# EAGLE library part BM83 (library BW-Active)
Bluetooth audio module
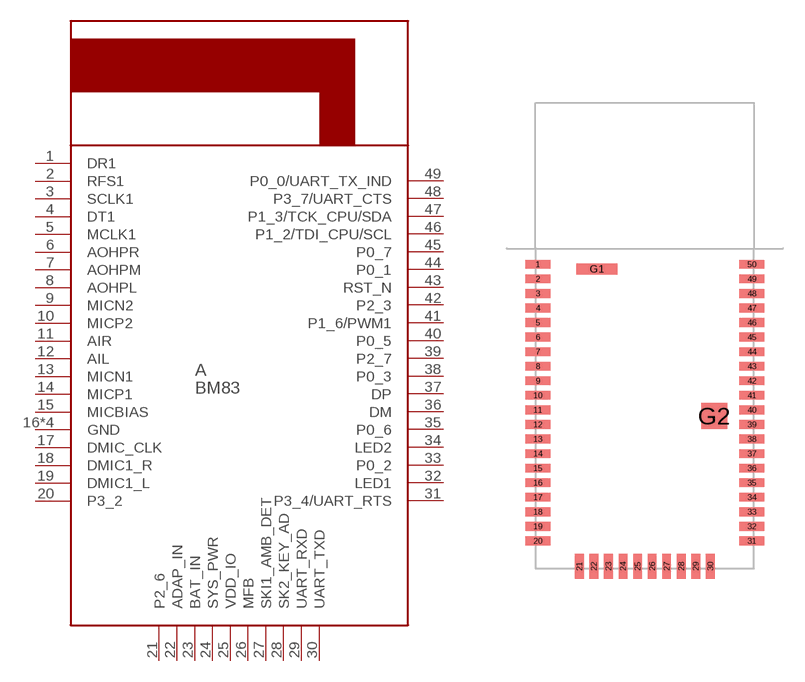
[diagram p30: symbol with the pads of BM83; footprint BM83]

Designator prefix A

## BM83  [BM83]
1  DR1
2  RFS1
3  SCLK1
4  DT1
5  MCLK1
6  AOHPR
7  AOHPM
8  AOHPL
9  MICN2
10  MICP2
11  AIR
12  AIL
13  MICN1
14  MICP1
15  MICBIAS
16  GND
17  DMIC_CLK
18  DMIC1_R
19  DMIC1_L
20  P3_2
21  P2_6
22  ADAP_IN
23  BAT_IN
24  SYS_PWR
25  VDD_IO
26  MFB
27  SKI1_AMB_DET
28  SK2_KEY_AD
29  UART_RXD
30  UART_TXD
31  P3_4/UART_RTS
32  LED1
33  P0_2
34  LED2
35  P0_6
36  DM
37  DP
38  P0_3
39  P2_7
40  P0_5
41  P1_6/PWM1
42  P2_3
43  RST_N
44  P0_1
45  P0_7
46  P1_2/TDI_CPU/SCL
47  P1_3/TCK_CPU/SDA
48  P3_7/UART_CTS
49  P0_0/UART_TX_IND
50  GND
G1  GND
G2  GND

## Footprint BM83 (pad centres in mm)
smd 1.7 x 0.6: 1 0.15,-1.1; 2 0.15,-2.1; 3 0.15,-3.1; 4 0.15,-4.1; 5 0.15,-5.1; 6 0.15,-6.1; 7 0.15,-7.1; 8 0.15,-8.1; 9 0.15,-9.1; 10 0.15,-10.1; 11 0.15,-11.1; 12 0.15,-12.1; 13 0.15,-13.1; 14 0.15,-14.1; 15 0.15,-15.1; 16 0.15,-16.1; 17 0.15,-17.1; 18 0.15,-18.1; 19 0.15,-19.1; 20 0.15,-20.1; 31 14.85,-20.1; 32 14.85,-19.1; 33 14.85,-18.1; 34 14.85,-17.1; 35 14.85,-16.1; 36 14.85,-15.1; 37 14.85,-14.1; 38 14.85,-13.1; 39 14.85,-12.1; 40 14.85,-11.1; 41 14.85,-10.1; 42 14.85,-9.1; 43 14.85,-8.1; 44 14.85,-7.1; 45 14.85,-6.1; 46 14.85,-5.1; 47 14.85,-4.1; 48 14.85,-3.1; 49 14.85,-2.1; 50 14.85,-1.1
smd 0.6 x 1.7: 21 3,-21.85; 22 4,-21.85; 23 5,-21.85; 24 6,-21.85; 25 7,-21.85; 26 8,-21.85; 27 9,-21.85; 28 10,-21.85; 29 11,-21.85; 30 12,-21.85
smd 2.79 x 0.76: G1 4.21,-1.42
smd 1.78 x 1.78: G2 12.27,-11.53